# EAGLE library part M8 (library JOSIAHLIB)
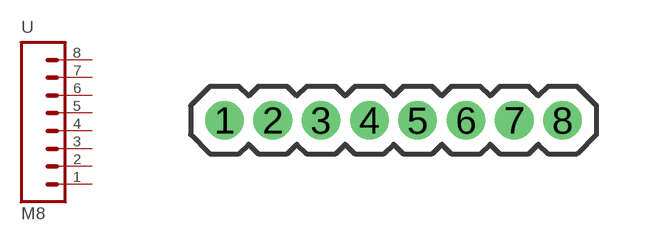
[diagram p2: symbol with the pads of M8; footprint M8]

Designator prefix -

## M8  [M8]
1  3  pas
2  4  pas
3  5  pas
4  6  pas
5  7  pas
6  8  pas
7  9  pas
8  10  pas

## Footprint M8 (pad centres in mm)
drill 0.508 pad 1: 1 -3.81,0; 2 -2.54,0; 3 -1.27,0; 4 0,0; 5 1.27,0; 6 2.54,0; 7 3.81,0; 8 5.08,0